# EAGLE library part TC554001 (library parts)
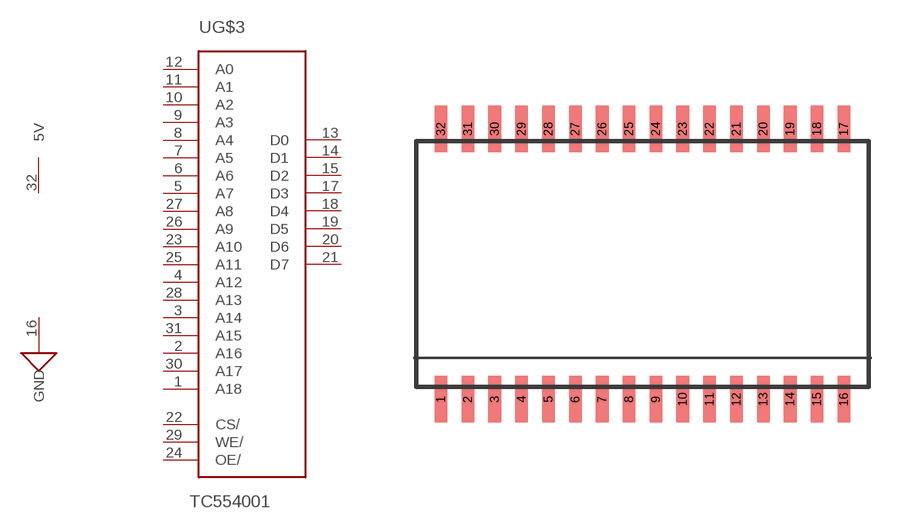
[diagram p3: symbol with the pads of SOP32; footprint SOP32]

Designator prefix -; gates G$3=SRAM512KX8 VDD=5V VSS=GND

## TC554001AF  [SOP32]
1  G$3:A18  in
2  G$3:A16  in
3  G$3:A14  in
4  G$3:A12  in
5  G$3:A7  in
6  G$3:A6  in
7  G$3:A5  in
8  G$3:A4  in
9  G$3:A3  in
10  G$3:A2  in
11  G$3:A1  in
12  G$3:A0  in
13  G$3:D0  hiz
14  G$3:D1  hiz
15  G$3:D2  hiz
16  VSS:GND  pwr
17  G$3:D3  hiz
18  G$3:D4  hiz
19  G$3:D5  hiz
20  G$3:D6  hiz
21  G$3:D7  hiz
22  G$3:CS/  in
23  G$3:A10  in
24  G$3:OE/  in
25  G$3:A11  in
26  G$3:A9  in
27  G$3:A8  in
28  G$3:A13  in
29  G$3:WE/  in
30  G$3:A17  in
31  G$3:A15  in
32  VDD:5V  pwr

## Footprint SOP32 (pad centres in mm)
SMALL OUTLINE PACKAGE
smd 0.6 x 2.2: 1 -9.525,-6.4; 2 -8.255,-6.4; 3 -6.985,-6.4; 4 -5.715,-6.4; 5 -4.445,-6.4; 6 -3.175,-6.4; 7 -1.905,-6.4; 8 -0.635,-6.4; 9 0.635,-6.4; 10 1.905,-6.4; 11 3.175,-6.4; 12 4.445,-6.4; 13 5.715,-6.4; 14 6.985,-6.4; 15 8.255,-6.4; 16 9.525,-6.4; 17 9.525,6.4; 18 8.255,6.4; 19 6.985,6.4; 20 5.715,6.4; 21 4.445,6.4; 22 3.175,6.4; 23 1.905,6.4; 24 0.635,6.4; 25 -0.635,6.4; 26 -1.905,6.4; 27 -3.175,6.4; 28 -4.445,6.4; 29 -5.715,6.4; 30 -6.985,6.4; 31 -8.255,6.4; 32 -9.525,6.4